# Altium schematic symbol library TS2.SchLib: 1 symbol
Pins are listed as number, name and electrical type; pins without a type are passive.

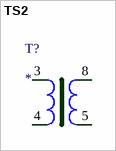
[diagram p0: symbol TS2]

## TS2
designator T?
BUY_LINK: *; PDF: *; PRICE: *; ID: *
footprint KK36
pins: 3, 4, 5, 8